# Altium schematic symbol library EL-sense_Transistors.SchLib: 3 symbols
Pins are listed as number, name and electrical type; pins without a type are passive.

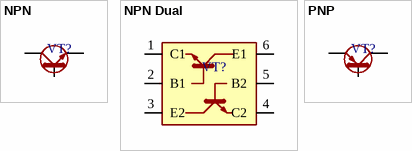
[diagram p0: symbols NPN to PNP]

## NPN
designator VT?
pins: B, C, E

## NPN Dual
designator VT?
pins: 1 C1, 2 B1, 3 E2, 4 C2, 5 B2, 6 E1

## PNP
designator VT?
pins: B, C, E